# EAGLE library part EDGE_SLICE (library NSL_LED_Ball)
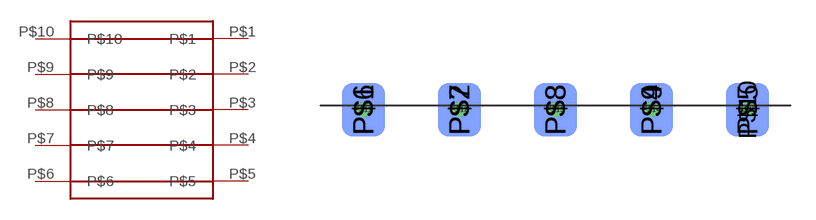
[diagram p0: symbol with the pads of SLICE_EDGE; footprint SLICE_EDGE]

Designator prefix -

## EDGE_SLICE  [SLICE_EDGE]
P$1  P$1
P$2  P$2
P$3  P$3
P$4  P$4
P$5  P$5
P$6  P$6
P$7  P$7
P$8  P$8
P$9  P$9
P$10  P$10

## Footprint SLICE_EDGE (pad centres in mm)
smd 2.54 x 3.175: P$1 -11.43,0; P$2 -5.715,0; P$3 0,0; P$4 5.715,0; P$5 11.43,0
smd 2.54 x 3.175 bottom: P$6 -11.43,0; P$7 -5.715,0; P$8 0,0; P$9 5.715,0; P$10 11.43,0
drill 0.356 round: P$11 -11.43,0; P$12 -5.715,0; P$13 0,0; P$14 5.715,0; P$15 11.43,0